# Altium schematic symbol library DMT6005LPS-13.SchLib: 2 symbols
Pins are listed as number, name and electrical type; pins without a type are passive.

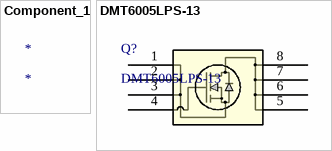
[diagram p0: symbols Component_1 to DMT6005LPS-13]

## Component_1
designator *

## DMT6005LPS-13
designator Q?
No Description Available; Mfr_Name: Diodes Inc; Type: DEV; Copyright: Copyright (C) 2023 Ultra Librarian. All rights reserved.; Manufacturer_Part_Number: DMT6005LPS-13; RefDes: RefDes
footprint POWERDI5060-8_DIO
footprint POWERDI5060-8_DIO-L
footprint POWERDI5060-8_DIO-M
pins: 1, 2, 3, 4, 5, 6, 7, 8